# Altium schematic symbol library GEOS-5M.SchLib: 1 symbol
Pins are listed as number, name and electrical type; pins without a type are passive.

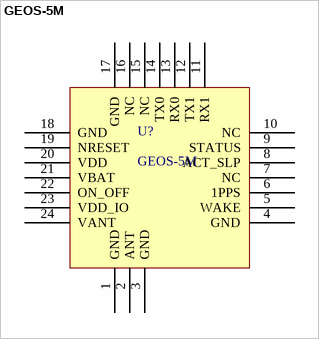
[diagram p0: symbol GEOS-5M]

## GEOS-5M
designator U?
GNSS module
pins: 1 GND (power), 2 ANT, 3 GND (power), 4 GND (power), 5 WAKE, 6 1PPS, 7 NC, 8 ACT_SLP, 9 STATUS, 10 NC, 11 RX1, 12 TX1, 13 RX0, 14 TX0, 15 NC, 16 NC, 17 GND (power), 18 GND (power), 19 NRESET, 20 VDD (power), 21 VBAT (power), 22 ON_OFF, 23 VDD_IO (power), 24 VANT (power)